# Altium footprint library SDR_wt_PCBlib.PcbLib: 47 footprints (part 1 of 3)
Each footprint in its own frame and in the unit in brackets; x right, y up, seen from the top. Pads: shape width x height; smd on the part's side, far side on the other; paste and mask are expansions set on the pad; w line width, h text height; cw(c..) or ccw(c..) is an arc to the next point about the centre after c.
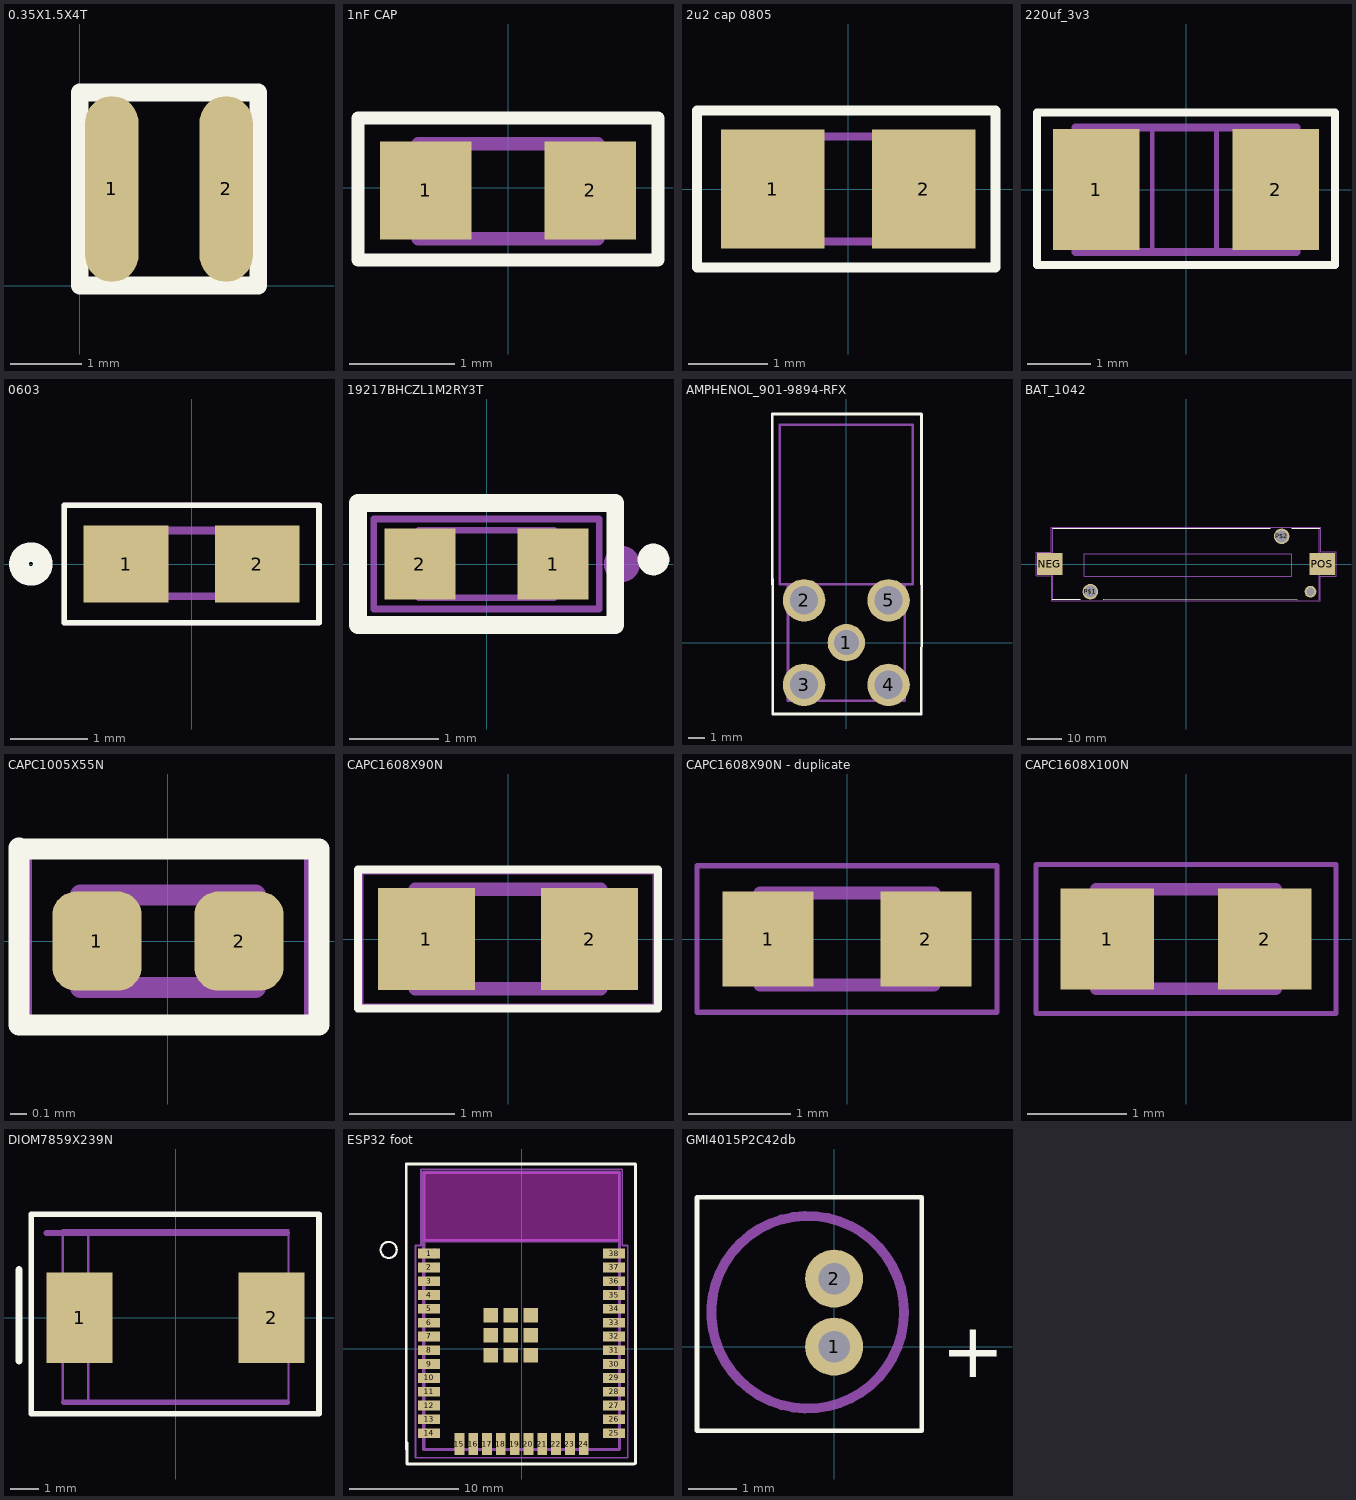
[diagram p0: the footprints below, top view; thin cyan lines are the x and y axes]

## 0.35X1.5X4T [mm]
pads (2):
  oval 0.75x2.6 smd: 1(0.452,1.353) 2(2.052,1.353)
Top Overlay:
  lines w0.25: 0.002,0.003 2.502,0.003 2.502,2.703 0.002,2.703 0.002,0.003

## 1nF CAP [mm]
pads (2):
  rect 0.87x0.93 smd: 1(-0.78,-0.025) 2(0.78,-0.025)
Top Overlay:
  lines w0.127: -1.422,-0.686 1.422,-0.686 1.422,0.66 -1.422,0.66 -1.422,-0.686
Mechanical 29:
  lines w0.127: -0.85,-0.483 0.85,-0.483 0.85,0.417 -0.85,0.417 -0.85,-0.483
  text "'.Designator'" at -1.324,-0.638 h1.14
3D body "1nf_CL10C102JB8NNNC.STEP": height 0.81, standoff 0.01, extent -0.8,-0.475 0.8,0.425

## 2u2 cap 0805 [mm]
pads (2):
  rect 1.3x1.5 smd: 1(-0.95,0) 2(0.95,0)
Top Overlay:
  lines w0.127: -1.905,0.991 -1.905,-0.991 1.829,-0.991 ; -1.88,0.991 1.854,0.991 1.854,-0.991
Mechanical 15:
  lines w0.051: -1.873,-0.983 -1.873,0.983 1.873,0.983 1.873,-0.983 -1.873,-0.983
Mechanical 29:
  region: -0.342,-0.724 -1.092,-0.724 -1.092,0.726 -0.342,0.726
  region: 1.106,-0.724 0.356,-0.724 0.356,0.726 1.106,0.726
  lines w0.102: -0.381,0.66 0.381,0.66 ; -0.356,-0.66 0.381,-0.66
  text "'.Designator'" at -1.804,-0.428 h0.7
3D body "2u2_GRM21BR71A225KA01L.STEP": height 1.26, standoff 0.01, extent -1,-0.725 1,0.725

## 220uf_3v3 [mm]
pads (2):
  rect 1.37x1.91 smd: 1(-1.421,0) 2(1.421,0)
Top Overlay:
  lines w0.127: -2.363,1.17 -2.363,-1.194 2.361,-1.194 2.361,1.221 ; -2.362,1.219 2.362,1.219
Mechanical 15:
  lines w0.05: -2.355,-1.205 2.355,-1.205 2.355,1.205 -2.355,1.205 -2.355,-1.205
Mechanical 29:
  lines w0.076: -0.533,0.94 -0.533,-0.991 0.483,-0.991 0.483,0.965 -0.508,0.965
  lines w0.127: -1.75,-0.991 1.75,-0.991 1.75,0.981 -1.75,0.981 -1.75,-0.991
  text "'.Designator'" at -3.737,-0.562 h1.14
3D body "step_temp.STEP": height 1.9, standoff 0, extent -1.6,-0.8 1.6,0.8

## 0603 [mm]
pads (2):
  rect 1.1x1 smd: 1(-0.85,0) 2(0.85,0)
Top Overlay:
  circle w0.254: c-2.083,0 r0.155
  lines w0.076: -1.651,-0.762 -1.651,0.762 1.651,0.762 1.651,-0.762 -1.651,-0.762
Mechanical 15:
  lines w0.076: -1.651,-0.762 -1.651,0.762 1.651,0.762 1.651,-0.762 -1.651,-0.762
Mechanical 29:
  region: -0.338,-0.471 -0.841,-0.471 -0.841,0.48 -0.338,0.48
  region: 0.83,-0.471 0.331,-0.471 0.331,0.48 0.83,0.48
  lines w0.102: -0.356,-0.419 0.356,-0.419 ; -0.356,0.432 0.356,0.432
  text "'.Designator'" at -1.448,-0.22 h0.64
3D body "LTST-C191KRKT.STEP": height 0.81, standoff 0.01, extent -0.8,-0.4 0.8,0.4

## 19217BHCZL1M2RY3T [mil]
pads (2):
  rect 31.5x31.5 smd: 1(29.53,0) 2(-29.53,0)
Top Overlay:
  circle w10: c74,2 r2
  lines w7.87: -57,-27 57,-27 57,27 -57,27 -57,-27
Mechanical 15:
  lines w3: -50,-20 -50,20 50,20 50,-20 -50,-20
Mechanical 29:
  circle w10: c60,0 r3
  lines w3: -30,-15 -30,15 30,15 30,-15 -30,-15
  text "'.Designator'" at -47,-13.67 h25
3D body "19-217_BHC-ZL1M2RY_3T.stp": height 21.65, standoff 0, extent -31.49,-15.74 31.5,15.75

## AMPHENOL_901-9894-RFX [mil]
pads (5):
  round 88.5 hole 59: 1(0,0)
  round 100.5 hole 67: 2(-100,100) 3(-100,-100) 4(100,-100) 5(100,100)
Top Overlay:
  lines w6: -175,138 -175,541 178,541 178,138 ; -174,150 -174,-169 177.34,-169 178.33,147.94
Mechanical 29:
  lines w6: -138,138 -157,138 -157,516 157,516 157,138 138,138 ; -138,138 138,138 ; -138,138 -138,-138 138,-138 138,138
  text "'.Designator'" at -52.13,-97.13 h45
3D body "SMAmale.STEP": height 432.74, standoff -154.61, extent -158,-137.77 156.96,515.77

## Antenna [mm]
3D body "Antenna.stp": height 10, standoff -10, extent -10.75,-48.5 10.75,109

## BAT_1042 [mm]
pads (5):
  rect 7.35x6.35 smd: NEG(-39.33,0) POS(39.33,0)
  round 4.466 hole 3.45: P$1(-27.6,-8) P$2(27.6,8)
  round 3.406 hole 2.39: P$3(35.93,-8)
Top Overlay:
  lines w0.127: -38.608,-10.16 -30.48,-10.16 ; -38.525,10.325 24.333,10.312 ; -23.876,-10.16 32.106,-10.262 ; 30.455,10.389 38.583,10.389
Mechanical 15:
  lines w0.127: -43.3,-3.4 -38.8,-3.4 -38.8,-10.6 38.8,-10.6 38.8,-3.5 43.3,-3.5 43.3,3.5 38.9,3.5 38.9,10.6 -38.9,10.6 -38.9,3.4 -43.3,3.4 -43.3,-3.4
Mechanical 29:
  region: -36.4,-2.403 -42.246,-2.403 -42.246,2.2 -36.4,2.2
  region: 42.2,-2.4 36.807,-2.4 36.807,2.2 42.2,2.2
  lines w0.127: -38.525,-10.325 -38.525,10.325 ; 38.525,-10.325 38.525,10.325 ; -29.4,-3.5 30.5,-3.5 30.5,3 -29.4,3 -29.4,-3.5
  text "'.Designator'" at -16.056,-1.621 h2.54
3D body "1042--3DModel-STEP-1.STEP": height 14.87, standoff -3.42, extent -43.231,-10.325 43.231,10.325

## CAPC1005X55N [mm]
pads (2):
  rrect53% 0.54x0.6 smd: 1(-0.43,0) 2(0.43,0)
Top Overlay:
  lines w0.127: -0.902,-0.508 0.914,-0.508 0.914,0.559 -0.902,0.559 ; -0.902,-0.502 -0.902,0.565
Mechanical 15:
  lines w0.05: -0.85,-0.54 -0.85,0.54 0.85,0.54 0.85,-0.54 -0.85,-0.54
Mechanical 29:
  lines w0.127: -0.53,-0.28 0.53,-0.28 0.53,0.28 -0.53,0.28 -0.53,-0.28
  text "'.Designator'" at -0.686,-0.263 h0.51
3D body "CL05B104KO5NNNC.STEP": height 0.51, standoff 0.01, extent -0.5,-0.254 0.5,0.296

## CAPC1608X90N [mm]
pads (2):
  rect 0.92x0.97 smd: 1(-0.775,0) 2(0.775,0)
Top Overlay:
  lines w0.076: -1.422,-0.66 -1.422,0.66 1.422,0.66 1.422,-0.66 -1.422,-0.66
Mechanical 15:
  lines w0.05: -1.397,-0.635 1.397,-0.635 1.397,0.635 -1.397,0.635 -1.397,-0.635
Mechanical 29:
  lines w0.127: -0.88,-0.47 -0.88,0.47 0.88,0.47 0.88,-0.47 -0.88,-0.47
  text "'.Designator'" at -0.804,-0.267 h0.38
3D body "CL10A106KP8NNNC.STEP": height 0.81, standoff 0.01, extent -0.8,-0.45 0.8,0.45

## CAPC1608X90N - duplicate [mm]
pads (2):
  rect 0.89x0.93 smd: 1(-0.77,0) 2(0.77,0)
Mechanical 13:
  lines w0.127: -0.85,-0.45 0.85,-0.45 0.85,0.45 -0.85,0.45 -0.85,-0.45
Mechanical 15:
  lines w0.05: -1.465,-0.715 1.465,-0.715 1.465,0.715 -1.465,0.715 -1.465,-0.715

## CAPC1608X100N [mm]
pads (2):
  rect 0.94x1.02 smd: 1(-0.79,0) 2(0.79,0)
Mechanical 13:
  lines w0.127: -0.9,-0.5 0.9,-0.5 0.9,0.5 -0.9,0.5 -0.9,-0.5
Mechanical 15:
  lines w0.05: -1.508,-0.75 1.508,-0.75 1.508,0.75 -1.508,0.75 -1.508,-0.75
3D body "CL10A105KP8NNNC.STEP": height 0.75, standoff -0.05, extent -0.798,-0.452 0.802,0.448

## DIOM7859X239N [mm]
pads (2):
  rect 2.3x3.15 smd: 1(-3.35,0) 2(3.35,0)
Top Overlay:
  lines w0.2: -5.029,-3.35 -5.029,3.607 5.004,3.607 5.004,-3.35 -5.029,-3.35
  lines w0.254: -5.461,-1.499 -5.461,1.676
Mechanical 15:
  lines w0.2: -4.5,2.95 3.9,2.95 ; -3.9,-2.95 3.9,-2.95
Mechanical 29:
  lines w0.076: -3.048,-2.921 -3.048,3.048 ; -3.937,-2.921 -3.937,3.048 3.937,3.048 3.937,-2.921 -3.937,-2.921
  text "'.Designator'" at -3.483,-1.367 h2.16
3D body "SS54C-HF.stp": height 2.39, standoff 0, extent -3.9,-2.95 3.9,2.95

## ESP32 foot [mm]
pads (47):
  rect 2x0.9 smd: 1(-8.5,8.755) 2(-8.5,7.485) 3(-8.5,6.215) 4(-8.5,4.945) 5(-8.5,3.675) 6(-8.5,2.405) 7(-8.5,1.135) 8(-8.5,-0.135) 9(-8.5,-1.405) 10(-8.5,-2.675) 11(-8.5,-3.945) 12(-8.5,-5.215) 13(-8.5,-6.485) 14(-8.5,-7.755) 25(8.5,-7.755) 26(8.5,-6.485) 27(8.5,-5.215) 28(8.5,-3.945) 29(8.5,-2.675) 30(8.5,-1.405) 31(8.5,-0.135) 32(8.5,1.135) 33(8.5,2.405) 34(8.5,3.675) 35(8.5,4.945) 36(8.5,6.215) 37(8.5,7.485) 38(8.5,8.755)
  rect 0.9x2 smd: 15(-5.715,-8.755) 16(-4.445,-8.755) 17(-3.175,-8.755) 18(-1.905,-8.755) 19(-0.635,-8.755) 20(0.635,-8.755) 21(1.905,-8.755) 22(3.175,-8.755) 23(4.445,-8.755) 24(5.715,-8.755)
  rect 1.33x1.33 smd: 39_1(-2.835,3.09) 39_2(-1,3.09) 39_3(0.835,3.09) 39_4(-2.835,1.255) 39_5(-1,1.255) 39_6(0.835,1.255) 39_7(-2.835,-0.58) 39_8(-1,-0.58) 39_9(0.835,-0.58)
Top Overlay:
  circle w0.2: c-12.217,9.093 r0.741
  lines w0.254: -10.592,-9.246 -10.592,16.993 10.465,16.993 10.465,-10.541 ; -10.541,-8.605 -10.541,-10.592 10.338,-10.592
Keep-Out Layer:
  region: 9,9.945 -9,9.945 -9,16.245 9,16.245
  region: 9,9.945 -9,9.945 -9,16.245 9,16.245
Mechanical 15:
  lines w0.152: -9.75,-10.005 9.75,-10.005 9.75,9.495 9.25,9.495 9.25,16.495 -9.25,16.495 -9.25,9.495 -9.75,9.495 -9.75,-10.005
Mechanical 29:
  circle w0.708: c-8.001,8.763 r0.1
  lines w0.3: -9,9.945 -9,-9.255 9,-9.255 9,9.945 ; -9,9.945 -9,16.245 9,16.245 9,9.945 ; -9,9.945 9,9.945
  text "ANTENNA" at -6,12.495 h1.78
  text "'.Designator'" at -6.731,-7.01 h1.14
3D body "ESP-wroom-32.step": height 3.01, standoff -0.02, extent -9.06,-9.296 9.01,16.244

## GMI4015P2C42db [mm]
pads (2):
  round 1.192 hole 0.65: 1(0,0) 2(0,1.4)
Top Overlay:
  lines w0.1: -2.819,-1.727 1.803,-1.727 1.803,3.073 -2.819,3.073 -2.819,-1.727
  text "+" at 2.207,-0.625 h1.14
Mechanical 29:
  circle w0.2: c-0.543,0.71 r1.981
  text "'.Designator'" at -3.356,0.327 h1.14
3D body "GMI4015P-2C-42db.stp": height 1.95, standoff -5, extent -2.55,-1.3 1.45,2.7